# EAGLE library part ESP-WROOM-32-DIP (library MyParts)
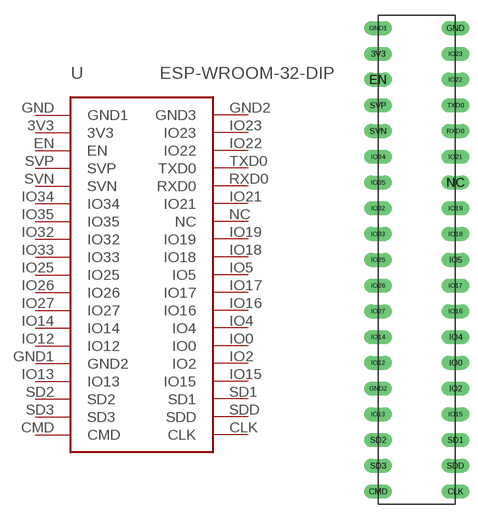
[diagram p6: symbol with the pads of ESP-WROOM-32-DIP; footprint ESP-WROOM-32-DIP]

Designator prefix -

## ESP-WROOM-32-DIP  [ESP-WROOM-32-DIP]
3V3  3V3
CLK  CLK
CMD  CMD
EN  EN
GND  GND1
GND1  GND2
GND2  GND3
IO0  IO0
IO2  IO2
IO4  IO4
IO5  IO5
IO12  IO12
IO13  IO13
IO14  IO14
IO15  IO15
IO16  IO16
IO17  IO17
IO18  IO18
IO19  IO19
IO21  IO21
IO22  IO22
IO23  IO23
IO25  IO25
IO26  IO26
IO27  IO27
IO32  IO32
IO33  IO33
IO34  IO34
IO35  IO35
NC  NC
RXD0  RXD0
SD1  SD1
SD2  SD2
SD3  SD3
SDD  SDD
SVN  SVN
SVP  SVP
TXD0  TXD0

## Footprint ESP-WROOM-32-DIP (pad centres in mm)
drill 0.864 long: 3V3 -3.81,22.86; CLK 3.81,-20.32; CMD -3.81,-20.32; EN -3.81,20.32; GND 3.81,25.4; GND1 -3.81,25.4; GND2 -3.81,-10.16; IO0 3.81,-7.62; IO2 3.81,-10.16; IO4 3.81,-5.08; IO5 3.81,2.54; IO12 -3.81,-7.62; IO13 -3.81,-12.7; IO14 -3.81,-5.08; IO15 3.81,-12.7; IO16 3.81,-2.54; IO17 3.81,0; IO18 3.81,5.08; IO19 3.81,7.62; IO21 3.81,12.7; IO22 3.81,20.32; IO23 3.81,22.86; IO25 -3.81,2.54; IO26 -3.81,0; IO27 -3.81,-2.54; IO32 -3.81,7.62; IO33 -3.81,5.08; IO34 -3.81,12.7; IO35 -3.81,10.16; NC 3.81,10.16; RXD0 3.81,15.24; SD1 3.81,-15.24; SD2 -3.81,-15.24; SD3 -3.81,-17.78; SDD 3.81,-17.78; SVN -3.81,15.24; SVP -3.81,17.78; TXD0 3.81,17.78